# Altium footprint library Rohm_Library.PcbLib: 1 footprints
Each footprint in its own frame and in the unit in brackets; x right, y up, seen from the top. Pads: shape width x height; smd on the part's side, far side on the other; paste and mask are expansions set on the pad; w line width, h text height; cw(c..) or ccw(c..) is an arc to the next point about the centre after c.
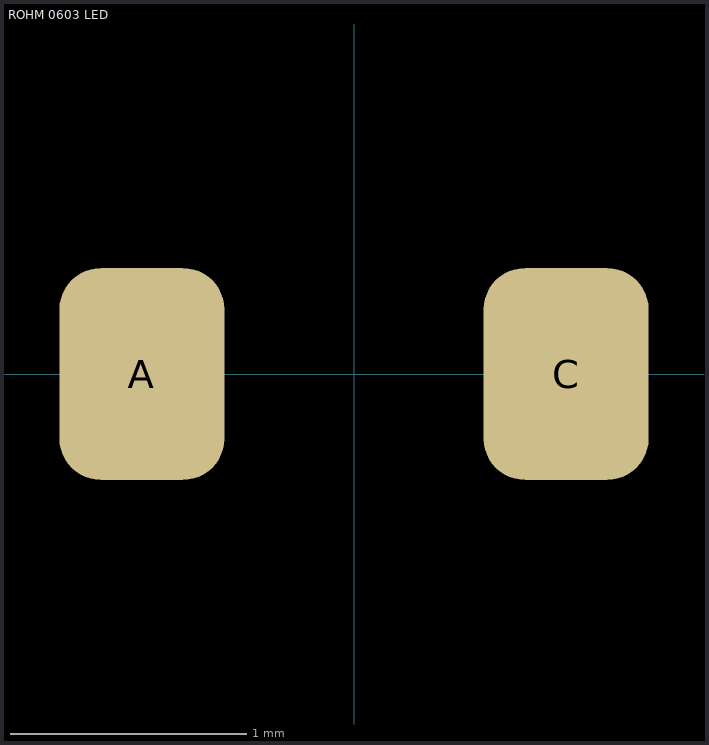
[diagram p0: the footprint, top view; thin cyan lines are the x and y axes]

## ROHM 0603 LED [mm] "ROHM 0603 LED"
pads (2):
  rrect50% 0.7x0.9 smd: A(-0.9,0) C(0.9,0)
3D body "Wurth Elektronik WL-SMCW 0603 (1608) LED Lens (Separate Body).step": height 0.7, standoff 0.3, extent -0.55,-0.381 0.55,0.419
3D body "Wurth Elektronik WL-SMCW 0603 (1608) LED Base (Separate Lens).step": height 0.64, standoff 0, extent -0.8,-0.4 0.8,0.4